# EAGLE library part MCP3208 (library Sedna Components)
The MCP3208 <https://www.mouser.com/datasheet/2/268/21298e-1101808.pdf> is an 8-channel ADC.
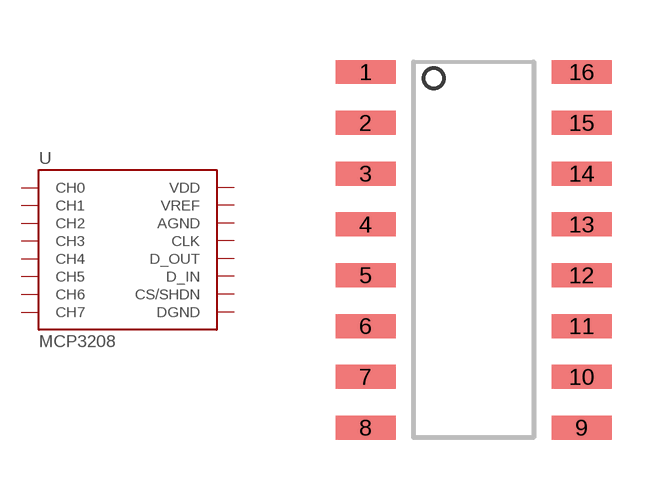
[diagram p2: symbol with the pads of MICROCHIP_SOIC-16_SL; footprint MICROCHIP_SOIC-16_SL]

Designator prefix U

## MCP3208  [MICROCHIP_SOIC-16_SL]
1  CH0  in
2  CH1  in
3  CH2  in
4  CH3  in
5  CH4  in
6  CH5  in
7  CH6  in
8  CH7  in
9  DGND  pwr
10  CS/SHDN  in
11  D_IN  in
12  D_OUT  out
13  CLK  in
14  AGND  pwr
15  VREF  in
16  VDD  pwr

## Footprint MICROCHIP_SOIC-16_SL (pad centres in mm)
This is the layout for Microchip SOIC-16 Small Outline Narrow (code SL) <https://ww1.microchip.com/downloads/en/DeviceDoc/16L_SOIC_Narrow_3_90_SL_C04-108C.pdf> components.
smd 1.5 x 0.6: 1 -2.7,4.445; 2 -2.7,3.175; 3 -2.7,1.905; 4 -2.7,0.635; 5 -2.7,-0.635; 6 -2.7,-1.905; 7 -2.7,-3.175; 8 -2.7,-4.445; 9 2.7,-4.445; 10 2.7,-3.175; 11 2.7,-1.905; 12 2.7,-0.635; 13 2.7,0.635; 14 2.7,1.905; 15 2.7,3.175; 16 2.7,4.445